# EAGLE library part AD5547 (library joakim)
Dual-Current Output, Parallel Input 16 bit Multiplying DAC Source: http://www.analog.com/media/en/technical-documentation/data-sheets/AD5547_5557.pdf
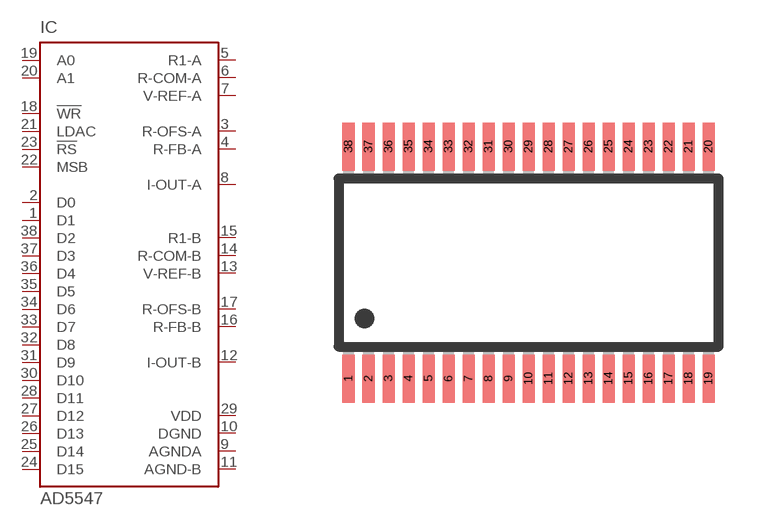
[diagram p2: symbol with the pads of TSSOP38J; footprint TSSOP38J]

Designator prefix IC

## AD5547  [TSSOP38J]
1  D1  in
2  D0  in
3  R-OFS-A  in
4  R-FB-A  in
5  R1-A  in
6  R-COM-A
7  V-REF-A  in
8  I-OUT-A  out
9  AGNDA  in
10  DGND  in
11  AGND-B  in
12  I-OUT-B  out
13  V-REF-B  in
14  R-COM-B
15  R1-B  in
16  R-FB-B  in
17  R-OFS-B  in
18  !WR  in
19  A0  in
20  A1  in
21  LDAC  in
22  MSB  in
23  !RS  in
24  D15  in
25  D14  in
26  D13  in
27  D12  in
28  D11  in
29  VDD  sup
30  D10  in
31  D9  in
32  D8  in
33  D7  in
34  D6  in
35  D5  in
36  D4  in
37  D3  in
38  D2  in

## Footprint TSSOP38J (pad centres in mm)
38-Lead Thin Shrink Small Outline Package [TSSOP] RU-38 Source: http://www.analog.com/UploadedFiles/Packages/415413609854197792024125RU38.pdf COMPLIANT TO JEDEC STANDARDS MS-153BD-1
smd 0.3 x 1.2: 1 -4.5,-2.9; 2 -4,-2.9; 3 -3.5,-2.9; 4 -3,-2.9; 5 -2.5,-2.9; 6 -2,-2.9; 7 -1.5,-2.9; 8 -1,-2.9; 9 -0.5,-2.9; 10 0,-2.9; 11 0.5,-2.9; 12 1,-2.9; 13 1.5,-2.9; 14 2,-2.9; 15 2.5,-2.9; 16 3,-2.9; 17 3.5,-2.9; 18 4,-2.9; 19 4.5,-2.9; 20 4.5,2.9; 21 4,2.9; 22 3.5,2.9; 23 3,2.9; 24 2.5,2.9; 25 2,2.9; 26 1.5,2.9; 27 1,2.9; 28 0.5,2.9; 29 0,2.9; 30 -0.5,2.9; 31 -1,2.9; 32 -1.5,2.9; 33 -2,2.9; 34 -2.5,2.9; 35 -3,2.9; 36 -3.5,2.9; 37 -4,2.9; 38 -4.5,2.9